# Altium footprint library SJ335083BTR.PcbLib: 1 footprints
Each footprint in its own frame and in the unit in brackets; x right, y up, seen from the top. Pads: shape width x height; smd on the part's side, far side on the other; paste and mask are expansions set on the pad; w line width, h text height; cw(c..) or ccw(c..) is an arc to the next point about the centre after c.
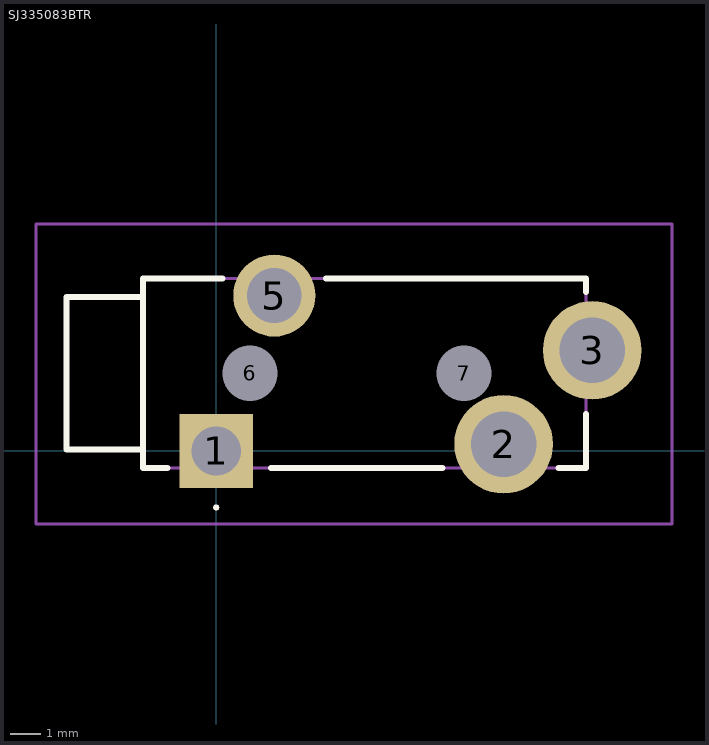
[diagram p0: the footprint, top view; thin cyan lines are the x and y axes]

## SJ335083BTR [mm]
pads (6):
  rect 2.415x2.415 hole 1.61: 1(0,0)
  round 3.225 hole 2.15: 2(9.4,0.22) 3(12.3,3.29)
  round 2.685 hole 1.79: 5(1.9,5.08)
  round 0.9 hole 1.8 unplated: 6(1.1,2.54) 7(8.1,2.54)
Top Overlay:
  lines w0.1: 0,-1.9 cw(c0,-1.85) 0,-1.8 ; 0,-1.9 0,-1.9 ; 0,-1.9 ccw(c0,-1.85) 0,-1.8 ; 0,-1.8 0,-1.8
  lines w0.2: -2.4,0.04 -4.9,0.04 -4.9,5.04 -2.4,5.04 ; -1.6,-0.56 -2.4,-0.56 -2.4,5.64 0.2,5.64 ; 1.8,-0.56 7.4,-0.56 ; 3.6,5.64 12.1,5.64 12.1,5.2 ; 11.2,-0.56 12.1,-0.56 12.1,1.2
Mechanical 15:
  lines w0.1: -2.4,0.04 -4.9,0.04 -4.9,5.04 -2.4,5.04 ; -2.4,-0.56 12.1,-0.56 12.1,5.64 -2.4,5.64 -2.4,-0.56
Mechanical 20:
  lines w0.1: -5.9,-2.392 14.913,-2.392 14.913,7.423 -5.9,7.423 -5.9,-2.392